# EAGLE library part SI5340 (library Silicon Labs)
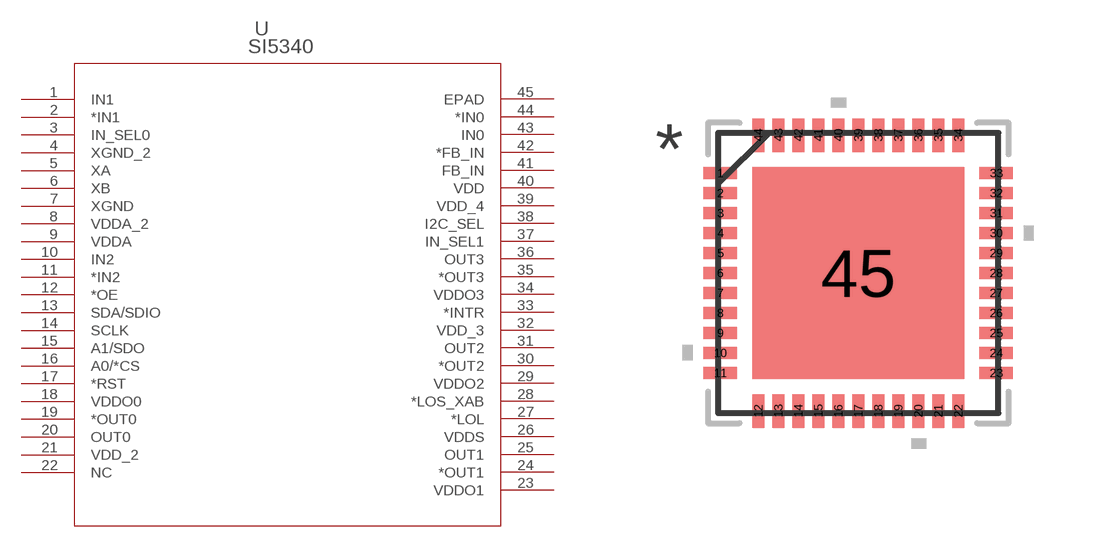
[diagram p9: symbol with the pads of QFN_44; footprint QFN_44]

Designator prefix U

## SI5340 (MANUFACTURER_PART_NUMBER: si5340; VENDOR: SILICONLABS)  [QFN_44]
1  IN1  in
2  *IN1  in
3  IN_SEL0  in
4  XGND_2  pwr
5  XA  in
6  XB  in
7  XGND  pwr
8  VDDA_2  pwr
9  VDDA  pwr
10  IN2  in
11  *IN2  in
12  *OE  in
13  SDA/SDIO
14  SCLK  in
15  A1/SDO
16  A0/*CS  in
17  *RST  in
18  VDDO0  pwr
19  *OUT0  out
20  OUT0  out
21  VDD_2  pwr
22  NC  nc
23  VDDO1  pwr
24  *OUT1  out
25  OUT1  out
26  VDDS  pwr
27  *LOL  out
28  *LOS_XAB  out
29  VDDO2  pwr
30  *OUT2  out
31  OUT2  out
32  VDD_3  pwr
33  *INTR  out
34  VDDO3  pwr
35  *OUT3  out
36  OUT3  out
37  IN_SEL1  in
38  I2C_SEL  in
39  VDD_4  pwr
40  VDD  pwr
41  FB_IN  in
42  *FB_IN  in
43  IN0  in
44  *IN0  in
45  EPAD  pas

## Footprint QFN_44 (pad centres in mm)
smd 0.838 x 0.305: 1 -3.45,2.501; 2 -3.45,2.001; 3 -3.45,1.5; 4 -3.45,1; 5 -3.45,0.5; 6 -3.45,0; 7 -3.45,-0.5; 8 -3.45,-1; 9 -3.45,-1.5; 10 -3.45,-2.001; 11 -3.45,-2.501; 23 3.45,-2.501; 24 3.45,-2.001; 25 3.45,-1.5; 26 3.45,-1; 27 3.45,-0.5; 28 3.45,0; 29 3.45,0.5; 30 3.45,1; 31 3.45,1.5; 32 3.45,2.001; 33 3.45,2.501
smd 0.305 x 0.838: 12 -2.501,-3.45; 13 -2.001,-3.45; 14 -1.5,-3.45; 15 -1,-3.45; 16 -0.5,-3.45; 17 0,-3.45; 18 0.5,-3.45; 19 1,-3.45; 20 1.5,-3.45; 21 2.001,-3.45; 22 2.501,-3.45; 34 2.501,3.45; 35 2.001,3.45; 36 1.5,3.45; 37 1,3.45; 38 0.5,3.45; 39 0,3.45; 40 -0.5,3.45; 41 -1,3.45; 42 -1.5,3.45; 43 -2.001,3.45; 44 -2.501,3.45
smd 5.309 x 5.309: 45 0,0